# Altium footprint library PCB - CAPACITOR - ALUMINIUM - CAP TH ALUM ELEC D6.30mm S2.50mm H16.50mm.PCBLIB: 1 footprints
Each footprint in its own frame and in the unit in brackets; x right, y up, seen from the top. Pads: shape width x height; smd on the part's side, far side on the other; paste and mask are expansions set on the pad; w line width, h text height; cw(c..) or ccw(c..) is an arc to the next point about the centre after c.
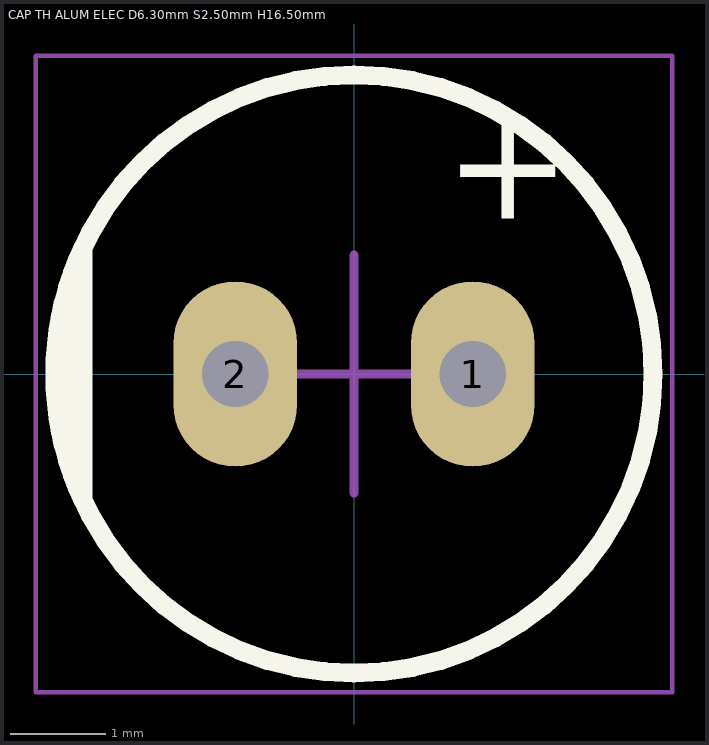
[diagram p0: the footprint, top view; thin cyan lines are the x and y axes]

## CAP TH ALUM ELEC D6.30mm S2.50mm H16.50mm [mm] "6.3mm Diameter 2.5mm Lead Spacing Aluminum Electrolytic Capacitors Radial, Can"
height 16.5
pads (2):
  oval 1.3x1.95 hole 0.7: 1(1.25,0) 2(-1.25,0)
Top Overlay:
  circle w0.2: c0,0 r3.15
  region: -2.855,-1.331 -2.928,-1.175 -3.038,-0.85 -3.113,-0.514 -3.15,-0.172 -3.15,0.172 -3.113,0.514 -3.038,0.85 -2.928,1.175 -2.855,1.331
  lines w0.2: -2.855,-1.331 cw(c0,0) -2.855,1.331 -2.855,-1.331
  text "+" at 0.95,1.25 h2
Mechanical 13:
  circle w0.1: c0,0 r3.15
  lines w0.1: -2.855,-1.331 -2.855,1.331
Mechanical 15:
  lines w0.05: -3.35,-3.35 3.35,-3.35 3.35,3.35 -3.35,3.35 -3.35,-3.35
  lines w0.1: -1.25,0 0,0 ; 0,-1.25 0,0 ; 0,1.25 0,0 ; 1.25,0 0,0
3D body "Cap TH D6.30mm H16.50mm L2.50mm.step": height 16.5, standoff -2.5, extent -3.158,-3.15 3.15,3.15